# Altium schematic symbol library CONN8.SCHLIB: 1 symbol
Pins are listed as number, name and electrical type; pins without a type are passive.

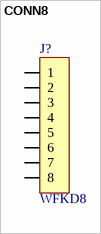
[diagram p0: symbol CONN8]

## CONN8
designator J?, comment WFKD8
footprint Turck-8-PCBH (90degree Turck Connector)
pins: 1, 2, 3, 4, 5, 6, 7, 8